# Altium footprint library ST-Microelectronics Footprints.PcbLib: 320 footprints (part 8 of 20)
Each footprint in its own frame and in the unit in brackets; x right, y up, seen from the top. Pads: shape width x height; smd on the part's side, far side on the other; paste and mask are expansions set on the pad; w line width, h text height; cw(c..) or ccw(c..) is an arc to the next point about the centre after c.
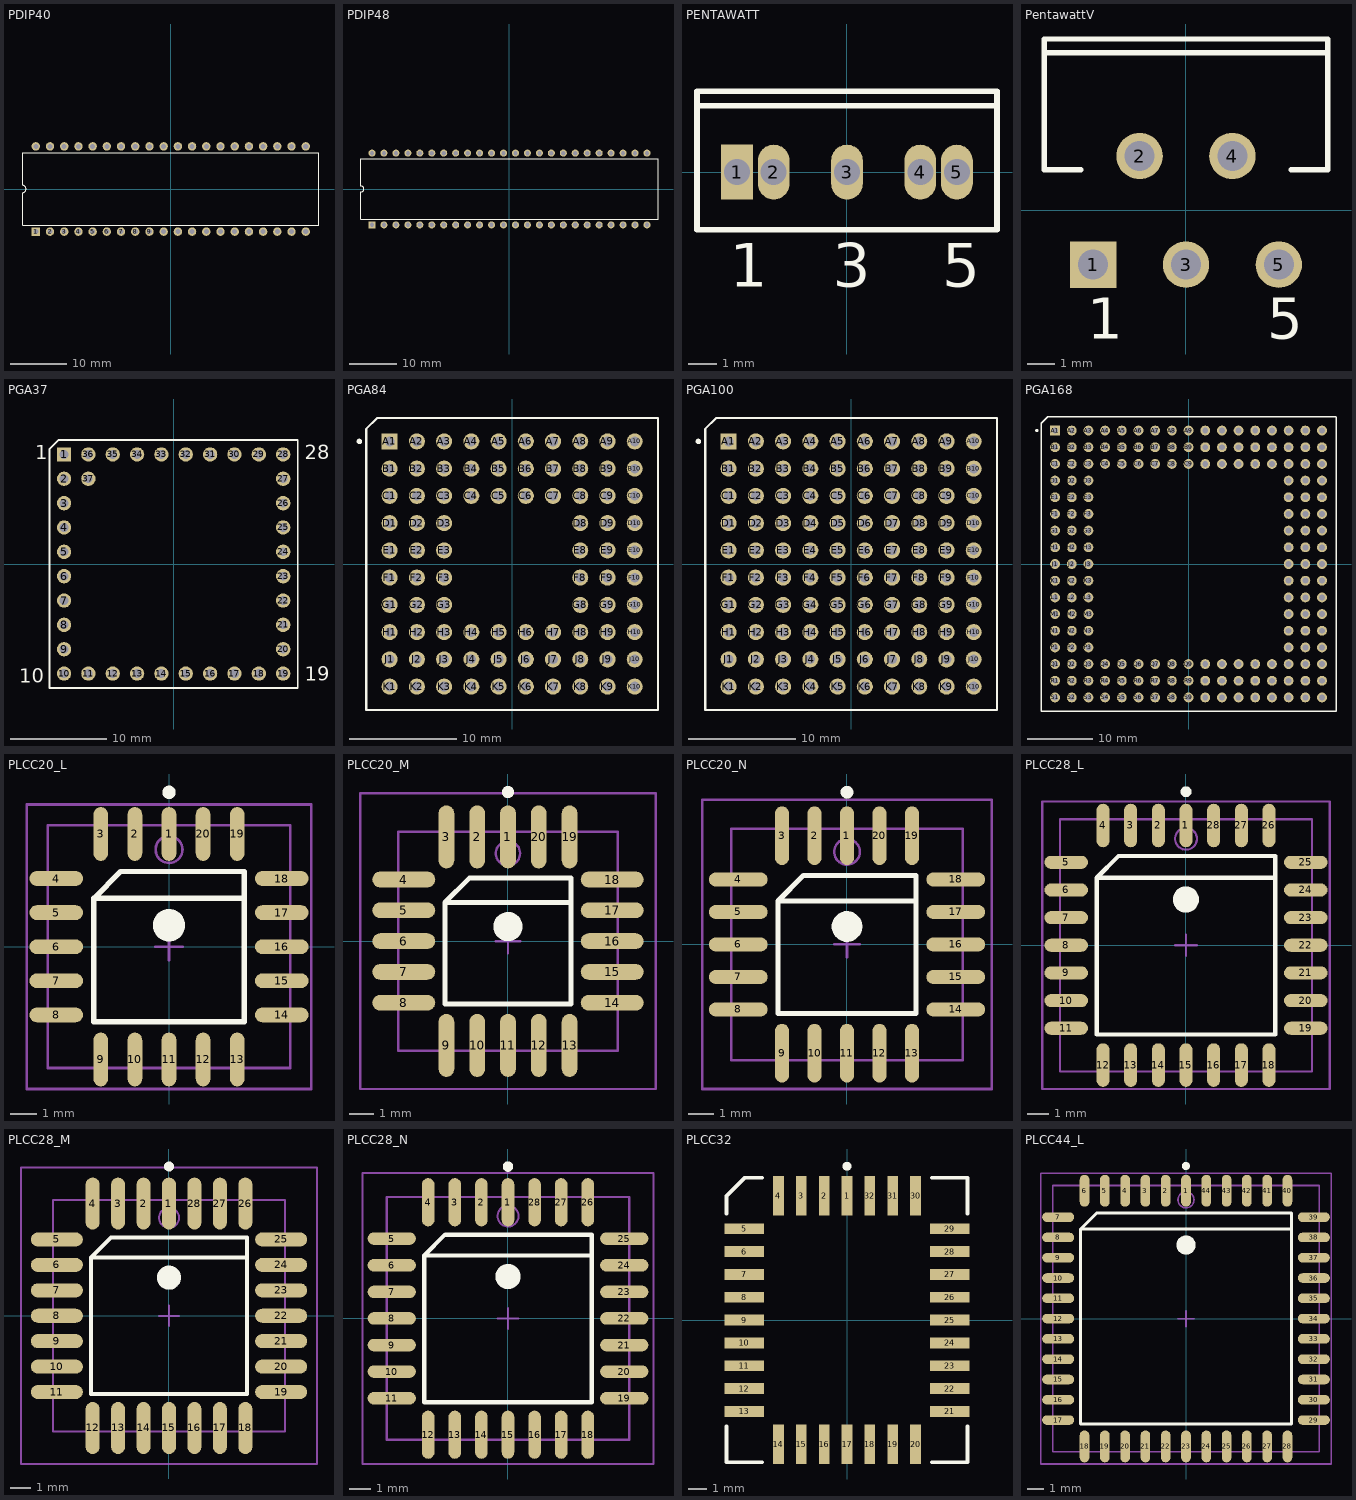
[diagram p7: the footprints below, top view; thin cyan lines are the x and y axes]

## PDIP40 [mm] "DIP, Plastic; 40 Leads; Row Spacing 15.24 mm; Pitch 2.54 mm"
height 4.45
pads (40):
  rect 1.5x1.5 hole 0.9: 1(-24.13,-7.62)
  round 1.5 hole 0.9: 2(-21.59,-7.62) 3(-19.05,-7.62) 4(-16.51,-7.62) 5(-13.97,-7.62) 6(-11.43,-7.62) 7(-8.89,-7.62) 8(-6.35,-7.62) 9(-3.81,-7.62) 10(-1.27,-7.62) 11(1.27,-7.62) 12(3.81,-7.62) 13(6.35,-7.62) 14(8.89,-7.62) 15(11.43,-7.62) 16(13.97,-7.62) 17(16.51,-7.62) 18(19.05,-7.62) 19(21.59,-7.62) 20(24.13,-7.62) 21(24.13,7.62) 22(21.59,7.62) 23(19.05,7.62) 24(16.51,7.62) 25(13.97,7.62) 26(11.43,7.62) 27(8.89,7.62) 28(6.35,7.62) 29(3.81,7.62) 30(1.27,7.62) 31(-1.27,7.62) 32(-3.81,7.62) 33(-6.35,7.62) 34(-8.89,7.62) 35(-11.43,7.62) 36(-13.97,7.62) 37(-16.51,7.62) 38(-19.05,7.62) 39(-21.59,7.62) 40(-24.13,7.62)
Top Overlay:
  lines w0.2: -26.5,-6.45 26.5,-6.45 26.5,6.45 -26.5,6.45 -26.5,0.635 cw(c-26.5,0) -26.5,-0.635 -26.5,-6.45

## PDIP48 [mm] "DIP, Plastic; 48 Leads; Row Spacing 15.24 mm; Pitch 2.54 mm"
height 4.8
pads (48):
  rect 1.5x1.5 hole 0.9: 1(-29.21,-7.62)
  round 1.5 hole 0.9: 2(-26.67,-7.62) 3(-24.13,-7.62) 4(-21.59,-7.62) 5(-19.05,-7.62) 6(-16.51,-7.62) 7(-13.97,-7.62) 8(-11.43,-7.62) 9(-8.89,-7.62) 10(-6.35,-7.62) 11(-3.81,-7.62) 12(-1.27,-7.62) 13(1.27,-7.62) 14(3.81,-7.62) 15(6.35,-7.62) 16(8.89,-7.62) 17(11.43,-7.62) 18(13.97,-7.62) 19(16.51,-7.62) 20(19.05,-7.62) 21(21.59,-7.62) 22(24.13,-7.62) 23(26.67,-7.62) 24(29.21,-7.62) 25(29.21,7.62) 26(26.67,7.62) 27(24.13,7.62) 28(21.59,7.62) 29(19.05,7.62) 30(16.51,7.62) 31(13.97,7.62) 32(11.43,7.62) 33(8.89,7.62) 34(6.35,7.62) 35(3.81,7.62) 36(1.27,7.62) 37(-1.27,7.62) 38(-3.81,7.62) 39(-6.35,7.62) 40(-8.89,7.62) 41(-11.43,7.62) 42(-13.97,7.62) 43(-16.51,7.62) 44(-19.05,7.62) 45(-21.59,7.62) 46(-24.13,7.62) 47(-26.67,7.62) 48(-29.21,7.62)
Top Overlay:
  lines w0.2: -31.55,-6.45 31.55,-6.45 31.55,6.45 -31.55,6.45 -31.55,0.635 cw(c-31.55,0) -31.55,-0.635 -31.55,-6.45

## PENTAWATT [mm] "TO, Thru-Hole, Vertical, Heatsink Mounted; 5 In-Line Leads; Uneven Pitch"
height 15.8
pads (5):
  rect 1.1x1.9 hole 0.9: 1(-3.81,0)
  oval 1.1x1.9 hole 0.9: 2(-2.54,0) 3(0,0) 4(2.54,0) 5(3.81,0)
Top Overlay:
  lines w0.2: -5.2,2.3 5.2,2.3 ; -5.2,-2 5.2,-2 5.2,2.8 -5.2,2.8 -5.2,-2
  text "1" at -4.06,-3.975 h1.5
  text "3" at -0.5,-3.975 h1.5
  text "5" at 3.31,-3.975 h1.5

## PentawattV [mm] "TO, Thru-Hole, Vertical, Heatsink Mounted; 5 Bent Staggered Leads; Pitch 1.7 mm"
height 21.2
pads (5):
  rect 1.7x1.7 hole 1.1: 1(-3.4,-1.99)
  round 1.7 hole 1.1: 2(-1.7,1.99) 3(0,-1.99) 4(1.7,1.99) 5(3.4,-1.99)
Top Overlay:
  lines w0.2: -5.2,5.78 5.2,5.78 ; -3.854,1.48 -5.2,1.48 -5.2,6.28 5.2,6.28 5.2,1.48 3.854,1.48
  text "1" at -3.62,-4.715 h1.5
  text "5" at 2.98,-4.715 h1.5

## PGA37 [mm] "37-Pin Pin Grid Array 2.54 mm Pitch"
height 5.1
pads (37):
  rect 1.5x1.5 hole 0.9: 1(-11.43,11.43)
  round 1.5 hole 0.9: 2(-11.43,8.89) 3(-11.43,6.35) 4(-11.43,3.81) 5(-11.43,1.27) 6(-11.43,-1.27) 7(-11.43,-3.81) 8(-11.43,-6.35) 9(-11.43,-8.89) 10(-11.43,-11.43) 11(-8.89,-11.43) 12(-6.35,-11.43) 13(-3.81,-11.43) 14(-1.27,-11.43) 15(1.27,-11.43) 16(3.81,-11.43) 17(6.35,-11.43) 18(8.89,-11.43) 19(11.43,-11.43) 20(11.43,-8.89) 21(11.43,-6.35) 22(11.43,-3.81) 23(11.43,-1.27) 24(11.43,1.27) 25(11.43,3.81) 26(11.43,6.35) 27(11.43,8.89) 28(11.43,11.43) 29(8.89,11.43) 30(6.35,11.43) 31(3.81,11.43) 32(1.27,11.43) 33(-1.27,11.43) 34(-3.81,11.43) 35(-6.35,11.43) 36(-8.89,11.43) 37(-8.89,8.89)
Top Overlay:
  lines w0.2: -12.95,-12.95 12.95,-12.95 12.95,12.95 -11.976,12.95 -12.95,11.976 -12.95,-12.95
  text "10" at -16.13,-12.37 h1.5
  text "19" at 13.67,-12.17 h1.5
  text "28" at 13.67,10.93 h1.5
  text "1" at -14.43,10.93 h1.5

## PGA84 [mm] "84-Pin Pin Grid Array 2.54 mm Pitch"
height 5.47
pads (84):
  rect 1.5x1.5 hole 0.9: A1(-11.43,11.43)
  round 1.5 hole 0.9: A2(-8.89,11.43) A3(-6.35,11.43) A4(-3.81,11.43) A5(-1.27,11.43) A6(1.27,11.43) A7(3.81,11.43) A8(6.35,11.43) A9(8.89,11.43) A10(11.43,11.43) B1(-11.43,8.89) B2(-8.89,8.89) B3(-6.35,8.89) B4(-3.81,8.89) B5(-1.27,8.89) B6(1.27,8.89) B7(3.81,8.89) B8(6.35,8.89) B9(8.89,8.89) B10(11.43,8.89) C1(-11.43,6.35) C2(-8.89,6.35) C3(-6.35,6.35) C4(-3.81,6.35) C5(-1.27,6.35) C6(1.27,6.35) C7(3.81,6.35) C8(6.35,6.35) C9(8.89,6.35) C10(11.43,6.35) D1(-11.43,3.81) D2(-8.89,3.81) D3(-6.35,3.81) D8(6.35,3.81) D9(8.89,3.81) D10(11.43,3.81) E1(-11.43,1.27) E2(-8.89,1.27) E3(-6.35,1.27) E8(6.35,1.27) E9(8.89,1.27) E10(11.43,1.27) F1(-11.43,-1.27) F2(-8.89,-1.27) F3(-6.35,-1.27) F8(6.35,-1.27) F9(8.89,-1.27) F10(11.43,-1.27) G1(-11.43,-3.81) G2(-8.89,-3.81) G3(-6.35,-3.81) G8(6.35,-3.81) G9(8.89,-3.81) G10(11.43,-3.81) H1(-11.43,-6.35) H2(-8.89,-6.35) H3(-6.35,-6.35) H4(-3.81,-6.35) H5(-1.27,-6.35) H6(1.27,-6.35) H7(3.81,-6.35) H8(6.35,-6.35) H9(8.89,-6.35) H10(11.43,-6.35) J1(-11.43,-8.89) J2(-8.89,-8.89) J3(-6.35,-8.89) J4(-3.81,-8.89) J5(-1.27,-8.89) J6(1.27,-8.89) J7(3.81,-8.89) J8(6.35,-8.89) J9(8.89,-8.89) J10(11.43,-8.89) K1(-11.43,-11.43) K2(-8.89,-11.43) K3(-6.35,-11.43) K4(-3.81,-11.43) K5(-1.27,-11.43) K6(1.27,-11.43) K7(3.81,-11.43) K8(6.35,-11.43) K9(8.89,-11.43) K10(11.43,-11.43)
Top Overlay:
  circle w0.25: c-14.25,11.43 r0.125
  lines w0.2: -13.6,-13.6 -13.6,12.6 -12.6,13.6 13.6,13.6 13.6,-13.6 -13.6,-13.6

## PGA100 [mm] "100-Pin Pin Grid Array 2.54 mm Pitch"
height 4.01
pads (100):
  rect 1.5x1.5 hole 0.9: A1(-11.43,11.43)
  round 1.5 hole 0.9: A2(-8.89,11.43) A3(-6.35,11.43) A4(-3.81,11.43) A5(-1.27,11.43) A6(1.27,11.43) A7(3.81,11.43) A8(6.35,11.43) A9(8.89,11.43) A10(11.43,11.43) B1(-11.43,8.89) B2(-8.89,8.89) B3(-6.35,8.89) B4(-3.81,8.89) B5(-1.27,8.89) B6(1.27,8.89) B7(3.81,8.89) B8(6.35,8.89) B9(8.89,8.89) B10(11.43,8.89) C1(-11.43,6.35) C2(-8.89,6.35) C3(-6.35,6.35) C4(-3.81,6.35) C5(-1.27,6.35) C6(1.27,6.35) C7(3.81,6.35) C8(6.35,6.35) C9(8.89,6.35) C10(11.43,6.35) D1(-11.43,3.81) D2(-8.89,3.81) D3(-6.35,3.81) D4(-3.81,3.81) D5(-1.27,3.81) D6(1.27,3.81) D7(3.81,3.81) D8(6.35,3.81) D9(8.89,3.81) D10(11.43,3.81) E1(-11.43,1.27) E2(-8.89,1.27) E3(-6.35,1.27) E4(-3.81,1.27) E5(-1.27,1.27) E6(1.27,1.27) E7(3.81,1.27) E8(6.35,1.27) E9(8.89,1.27) E10(11.43,1.27) F1(-11.43,-1.27) F2(-8.89,-1.27) F3(-6.35,-1.27) F4(-3.81,-1.27) F5(-1.27,-1.27) F6(1.27,-1.27) F7(3.81,-1.27) F8(6.35,-1.27) F9(8.89,-1.27) F10(11.43,-1.27) G1(-11.43,-3.81) G2(-8.89,-3.81) G3(-6.35,-3.81) G4(-3.81,-3.81) G5(-1.27,-3.81) G6(1.27,-3.81) G7(3.81,-3.81) G8(6.35,-3.81) G9(8.89,-3.81) G10(11.43,-3.81) H1(-11.43,-6.35) H2(-8.89,-6.35) H3(-6.35,-6.35) H4(-3.81,-6.35) H5(-1.27,-6.35) H6(1.27,-6.35) H7(3.81,-6.35) H8(6.35,-6.35) H9(8.89,-6.35) H10(11.43,-6.35) J1(-11.43,-8.89) J2(-8.89,-8.89) J3(-6.35,-8.89) J4(-3.81,-8.89) J5(-1.27,-8.89) J6(1.27,-8.89) J7(3.81,-8.89) J8(6.35,-8.89) J9(8.89,-8.89) J10(11.43,-8.89) K1(-11.43,-11.43) K2(-8.89,-11.43) K3(-6.35,-11.43) K4(-3.81,-11.43) K5(-1.27,-11.43) K6(1.27,-11.43) K7(3.81,-11.43) K8(6.35,-11.43) K9(8.89,-11.43) K10(11.43,-11.43)
Top Overlay:
  circle w0.25: c-14.25,11.43 r0.125
  lines w0.2: -13.6,-13.6 13.6,-13.6 13.6,13.6 -12.6,13.6 -13.6,12.6 -13.6,-13.6

## PGA168 [mm] "168-Pin Pin Grid Array 2.54 mm Pitch"
height 4.72
pads (168):
  rect 1.5x1.5 hole 0.9: A1(-20.32,20.32)
  round 1.5 hole 0.9: A2(-17.78,20.32) A3(-15.24,20.32) A4(-12.7,20.32) A5(-10.16,20.32) A6(-7.62,20.32) A7(-5.08,20.32) A8(-2.54,20.32) A9(0,20.32) A10(2.54,20.32) A11(5.08,20.32) A12(7.62,20.32) A13(10.16,20.32) A14(12.7,20.32) A15(15.24,20.32) A16(17.78,20.32) A17(20.32,20.32) B1(-20.32,17.78) B2(-17.78,17.78) B3(-15.24,17.78) B4(-12.7,17.78) B5(-10.16,17.78) B6(-7.62,17.78) B7(-5.08,17.78) B8(-2.54,17.78) B9(0,17.78) B10(2.54,17.78) B11(5.08,17.78) B12(7.62,17.78) B13(10.16,17.78) B14(12.7,17.78) B15(15.24,17.78) B16(17.78,17.78) B17(20.32,17.78) C1(-20.32,15.24) C2(-17.78,15.24) C3(-15.24,15.24) C4(-12.7,15.24) C5(-10.16,15.24) C6(-7.62,15.24) C7(-5.08,15.24) C8(-2.54,15.24) C9(0,15.24) C10(2.54,15.24) C11(5.08,15.24) C12(7.62,15.24) C13(10.16,15.24) C14(12.7,15.24) C15(15.24,15.24) C16(17.78,15.24) C17(20.32,15.24) D1(-20.32,12.7) D2(-17.78,12.7) D3(-15.24,12.7) D15(15.24,12.7) D16(17.78,12.7) D17(20.32,12.7) E1(-20.32,10.16) E2(-17.78,10.16) E3(-15.24,10.16) E15(15.24,10.16) E16(17.78,10.16) E17(20.32,10.16) F1(-20.32,7.62) F2(-17.78,7.62) F3(-15.24,7.62) F15(15.24,7.62) F16(17.78,7.62) F17(20.32,7.62) G1(-20.32,5.08) G2(-17.78,5.08) G3(-15.24,5.08) G15(15.24,5.08) G16(17.78,5.08) G17(20.32,5.08) H1(-20.32,2.54) H2(-17.78,2.54) H3(-15.24,2.54) H15(15.24,2.54) H16(17.78,2.54) H17(20.32,2.54) J1(-20.32,0) J2(-17.78,0) J3(-15.24,0) J15(15.24,0) J16(17.78,0) J17(20.32,0) K1(-20.32,-2.54) K2(-17.78,-2.54) K3(-15.24,-2.54) K15(15.24,-2.54) K16(17.78,-2.54) K17(20.32,-2.54) L1(-20.32,-5.08) L2(-17.78,-5.08) L3(-15.24,-5.08) L15(15.24,-5.08) L16(17.78,-5.08) L17(20.32,-5.08) M1(-20.32,-7.62) M2(-17.78,-7.62) M3(-15.24,-7.62) M15(15.24,-7.62) M16(17.78,-7.62) M17(20.32,-7.62) N1(-20.32,-10.16) N2(-17.78,-10.16) N3(-15.24,-10.16) N15(15.24,-10.16) N16(17.78,-10.16) N17(20.32,-10.16) P1(-20.32,-12.7) P2(-17.78,-12.7) P3(-15.24,-12.7) P15(15.24,-12.7) P16(17.78,-12.7) P17(20.32,-12.7) Q1(-20.32,-15.24) Q2(-17.78,-15.24) Q3(-15.24,-15.24) Q4(-12.7,-15.24) Q5(-10.16,-15.24) Q6(-7.62,-15.24) Q7(-5.08,-15.24) Q8(-2.54,-15.24) Q9(0,-15.24) Q10(2.54,-15.24) Q11(5.08,-15.24) Q12(7.62,-15.24) Q13(10.16,-15.24) Q14(12.7,-15.24) Q15(15.24,-15.24) Q16(17.78,-15.24) Q17(20.32,-15.24) R1(-20.32,-17.78) R2(-17.78,-17.78) R3(-15.24,-17.78) R4(-12.7,-17.78) R5(-10.16,-17.78) R6(-7.62,-17.78) R7(-5.08,-17.78) R8(-2.54,-17.78) R9(0,-17.78) R10(2.54,-17.78) R11(5.08,-17.78) R12(7.62,-17.78) R13(10.16,-17.78) R14(12.7,-17.78) R15(15.24,-17.78) R16(17.78,-17.78) R17(20.32,-17.78) S1(-20.32,-20.32) S2(-17.78,-20.32) S3(-15.24,-20.32) S4(-12.7,-20.32) S5(-10.16,-20.32) S6(-7.62,-20.32) S7(-5.08,-20.32) S8(-2.54,-20.32) S9(0,-20.32) S10(2.54,-20.32) S11(5.08,-20.32) S12(7.62,-20.32) S13(10.16,-20.32) S14(12.7,-20.32) S15(15.24,-20.32) S16(17.78,-20.32) S17(20.32,-20.32)
Top Overlay:
  circle w0.25: c-23.1,20.32 r0.125
  lines w0.2: -22.45,-22.45 -22.45,21.45 -21.45,22.45 22.45,22.45 22.45,-22.45 -22.45,-22.45

## PLCC20_L [mm] "20-Pin Leaded Chip Carrier 1.27 mm Pitch, IPC High Density"
height 4.57
pads (20):
  oval 0.55x2 smd: 1(0,4.2) 2(-1.27,4.2) 3(-2.54,4.2) 9(-2.54,-4.2) 10(-1.27,-4.2) 11(0,-4.2) 12(1.27,-4.2) 13(2.54,-4.2) 19(2.54,4.2) 20(1.27,4.2)
  oval 2x0.55 smd: 4(-4.2,2.54) 5(-4.2,1.27) 6(-4.2,0) 7(-4.2,-1.27) 8(-4.2,-2.54) 14(4.2,-2.54) 15(4.2,-1.27) 16(4.2,0) 17(4.2,1.27) 18(4.2,2.54)
Top Overlay:
  circle w0.6: c0,0.8 r0.3
  circle w0.25: c0,5.75 r0.125
  lines w0.2: 2.8,1.8 -2.8,1.8 ; -2.8,1.8 -2.8,-2.8 2.8,-2.8 2.8,2.8 -1.8,2.8 -2.8,1.8
Mechanical 13:
  circle w0.1: c0,3.62 r0.5
  lines w0.1: -4.52,-4.52 4.52,-4.52 4.52,4.52 -4.52,4.52 -4.52,-4.52
Mechanical 15:
  lines w0.1: -0.5,0 0.5,0 ; 0,-0.5 0,0.5 ; -5.3,-5.3 5.3,-5.3 5.3,5.3 -5.3,5.3 -5.3,-5.3
3D body: height 4.57, standoff 0, extent -4.52,-4.52 4.52,4.52

## PLCC20_M [mm] "20-Pin Leaded Chip Carrier 1.27 mm Pitch, IPC Low Density"
height 4.57
pads (20):
  oval 0.65x2.6 smd: 1(0,4.3) 2(-1.27,4.3) 3(-2.54,4.3) 9(-2.54,-4.3) 10(-1.27,-4.3) 11(0,-4.3) 12(1.27,-4.3) 13(2.54,-4.3) 19(2.54,4.3) 20(1.27,4.3)
  oval 2.6x0.65 smd: 4(-4.3,2.54) 5(-4.3,1.27) 6(-4.3,0) 7(-4.3,-1.27) 8(-4.3,-2.54) 14(4.3,-2.54) 15(4.3,-1.27) 16(4.3,0) 17(4.3,1.27) 18(4.3,2.54)
Top Overlay:
  circle w0.25: c0,6.15 r0.125
  circle w0.6: c0,0.6 r0.3
  lines w0.2: 2.6,1.6 -2.6,1.6 ; -2.6,1.6 -1.6,2.6 2.6,2.6 2.6,-2.6 -2.6,-2.6 -2.6,1.6
Mechanical 13:
  circle w0.1: c0,3.62 r0.5
  lines w0.1: -4.52,-4.52 -4.52,4.52 4.52,4.52 4.52,-4.52 -4.52,-4.52
Mechanical 15:
  lines w0.1: -0.5,0 0.5,0 ; 0,-0.5 0,0.5 ; -6.1,-6.1 -6.1,6.1 6.1,6.1 6.1,-6.1 -6.1,-6.1
3D body: height 4.57, standoff 0, extent -4.52,-4.52 4.52,4.52

## PLCC20_N [mm] "20-Pin Leaded Chip Carrier 1.27 mm Pitch, IPC Medium Density"
height 4.57
pads (20):
  oval 0.55x2.3 smd: 1(0,4.25) 2(-1.27,4.25) 3(-2.54,4.25) 9(-2.54,-4.25) 10(-1.27,-4.25) 11(0,-4.25) 12(1.27,-4.25) 13(2.54,-4.25) 19(2.54,4.25) 20(1.27,4.25)
  oval 2.3x0.55 smd: 4(-4.25,2.54) 5(-4.25,1.27) 6(-4.25,0) 7(-4.25,-1.27) 8(-4.25,-2.54) 14(4.25,-2.54) 15(4.25,-1.27) 16(4.25,0) 17(4.25,1.27) 18(4.25,2.54)
Top Overlay:
  circle w0.6: c0,0.7 r0.3
  circle w0.25: c0,5.95 r0.125
  lines w0.2: 2.7,1.7 -2.7,1.7 ; -2.7,1.7 -2.7,-2.7 2.7,-2.7 2.7,2.7 -1.7,2.7 -2.7,1.7
Mechanical 13:
  circle w0.1: c0,3.62 r0.5
  lines w0.1: -4.52,-4.52 4.52,-4.52 4.52,4.52 -4.52,4.52 -4.52,-4.52
Mechanical 15:
  lines w0.1: -0.5,0 0.5,0 ; 0,-0.5 0,0.5 ; -5.65,-5.65 5.65,-5.65 5.65,5.65 -5.65,5.65 -5.65,-5.65
3D body: height 4.57, standoff 0, extent -4.52,-4.52 4.52,4.52

## PLCC28_L [mm] "28-Pin Leaded Chip Carrier 1.27 mm Pitch, IPC High Density"
height 4.57
pads (28):
  oval 0.6x2 smd: 1(0,5.5) 2(-1.27,5.5) 3(-2.54,5.5) 4(-3.81,5.5) 12(-3.81,-5.5) 13(-2.54,-5.5) 14(-1.27,-5.5) 15(0,-5.5) 16(1.27,-5.5) 17(2.54,-5.5) 18(3.81,-5.5) 26(3.81,5.5) 27(2.54,5.5) 28(1.27,5.5)
  oval 2x0.6 smd: 5(-5.5,3.81) 6(-5.5,2.54) 7(-5.5,1.27) 8(-5.5,0) 9(-5.5,-1.27) 10(-5.5,-2.54) 11(-5.5,-3.81) 19(5.5,-3.81) 20(5.5,-2.54) 21(5.5,-1.27) 22(5.5,0) 23(5.5,1.27) 24(5.5,2.54) 25(5.5,3.81)
Top Overlay:
  circle w0.25: c0,7.05 r0.125
  circle w0.6: c0,2.1 r0.3
  lines w0.2: 4.1,3.1 -4.1,3.1 ; -4.1,3.1 -3.1,4.1 4.1,4.1 4.1,-4.1 -4.1,-4.1 -4.1,3.1
Mechanical 13:
  circle w0.1: c0,4.89 r0.5
  lines w0.1: -5.79,-5.79 -5.79,5.79 5.79,5.79 5.79,-5.79 -5.79,-5.79
Mechanical 15:
  lines w0.1: -0.5,0 0.5,0 ; 0,-0.5 0,0.5 ; -6.6,-6.6 -6.6,6.6 6.6,6.6 6.6,-6.6 -6.6,-6.6
3D body: height 4.57, standoff 0, extent -5.79,-5.79 5.79,5.79

## PLCC28_M [mm] "28-Pin Leaded Chip Carrier 1.27 mm Pitch, IPC Low Density"
height 4.57
pads (28):
  oval 0.7x2.6 smd: 1(0,5.6) 2(-1.27,5.6) 3(-2.54,5.6) 4(-3.81,5.6) 12(-3.81,-5.6) 13(-2.54,-5.6) 14(-1.27,-5.6) 15(0,-5.6) 16(1.27,-5.6) 17(2.54,-5.6) 18(3.81,-5.6) 26(3.81,5.6) 27(2.54,5.6) 28(1.27,5.6)
  oval 2.6x0.7 smd: 5(-5.6,3.81) 6(-5.6,2.54) 7(-5.6,1.27) 8(-5.6,0) 9(-5.6,-1.27) 10(-5.6,-2.54) 11(-5.6,-3.81) 19(5.6,-3.81) 20(5.6,-2.54) 21(5.6,-1.27) 22(5.6,0) 23(5.6,1.27) 24(5.6,2.54) 25(5.6,3.81)
Top Overlay:
  circle w0.25: c0,7.45 r0.125
  circle w0.6: c0,1.9 r0.3
  lines w0.2: 3.9,2.9 -3.9,2.9 ; -3.9,2.9 -2.9,3.9 3.9,3.9 3.9,-3.9 -3.9,-3.9 -3.9,2.9
Mechanical 13:
  circle w0.1: c0,4.89 r0.5
  lines w0.1: -5.79,-5.79 -5.79,5.79 5.79,5.79 5.79,-5.79 -5.79,-5.79
Mechanical 15:
  lines w0.1: -0.5,0 0.5,0 ; 0,-0.5 0,0.5 ; -7.4,-7.4 -7.4,7.4 7.4,7.4 7.4,-7.4 -7.4,-7.4
3D body: height 4.57, standoff 0, extent -5.79,-5.79 5.79,5.79

## PLCC28_N [mm] "28-Pin Leaded Chip Carrier 1.27 mm Pitch, IPC Medium Density"
height 4.57
pads (28):
  oval 0.6x2.3 smd: 1(0,5.55) 2(-1.27,5.55) 3(-2.54,5.55) 4(-3.81,5.55) 12(-3.81,-5.55) 13(-2.54,-5.55) 14(-1.27,-5.55) 15(0,-5.55) 16(1.27,-5.55) 17(2.54,-5.55) 18(3.81,-5.55) 26(3.81,5.55) 27(2.54,5.55) 28(1.27,5.55)
  oval 2.3x0.6 smd: 5(-5.55,3.81) 6(-5.55,2.54) 7(-5.55,1.27) 8(-5.55,0) 9(-5.55,-1.27) 10(-5.55,-2.54) 11(-5.55,-3.81) 19(5.55,-3.81) 20(5.55,-2.54) 21(5.55,-1.27) 22(5.55,0) 23(5.55,1.27) 24(5.55,2.54) 25(5.55,3.81)
Top Overlay:
  circle w0.25: c0,7.25 r0.125
  circle w0.6: c0,2 r0.3
  lines w0.2: 4,3 -4,3 ; -4,3 -3,4 4,4 4,-4 -4,-4 -4,3
Mechanical 13:
  circle w0.1: c0,4.89 r0.5
  lines w0.1: -5.79,-5.79 -5.79,5.79 5.79,5.79 5.79,-5.79 -5.79,-5.79
Mechanical 15:
  lines w0.1: -0.5,0 0.5,0 ; 0,-0.5 0,0.5 ; -6.95,-6.95 -6.95,6.95 6.95,6.95 6.95,-6.95 -6.95,-6.95
3D body: height 4.57, standoff 0, extent -5.79,-5.79 5.79,5.79

## PLCC32 [mm] "Leaded Chip Carrier; 32 Leads; Body 11.5 x 14 mm"
height 3.56
pads (32):
  rect 0.6x2.2 smd: 1(0,6.9) 2(-1.27,6.9) 3(-2.54,6.9) 4(-3.81,6.9) 14(-3.81,-6.9) 15(-2.54,-6.9) 16(-1.27,-6.9) 17(0,-6.9) 18(1.27,-6.9) 19(2.54,-6.9) 20(3.81,-6.9) 30(3.81,6.9) 31(2.54,6.9) 32(1.27,6.9)
  rect 2.2x0.6 smd: 5(-5.7,5.08) 6(-5.7,3.81) 7(-5.7,2.54) 8(-5.7,1.27) 9(-5.7,0) 10(-5.7,-1.27) 11(-5.7,-2.54) 12(-5.7,-3.81) 13(-5.7,-5.08) 21(5.7,-5.08) 22(5.7,-3.81) 23(5.7,-2.54) 24(5.7,-1.27) 25(5.7,0) 26(5.7,1.27) 27(5.7,2.54) 28(5.7,3.81) 29(5.7,5.08)
Top Overlay:
  circle w0.25: c0,8.55 r0.125
  lines w0.2: -6.7,-5.9 -6.7,-7.9 -4.7,-7.9 ; -6.7,5.9 -6.7,6.9 -5.7,7.9 -4.7,7.9 ; 4.7,-7.9 6.7,-7.9 6.7,-5.9 ; 4.7,7.9 6.7,7.9 6.7,5.9

## PLCC44_L [mm] "44-Pin Leaded Chip Carrier 1.27 mm Pitch, IPC High Density"
height 4.7
pads (44):
  oval 0.6x2 smd: 1(0,8) 2(-1.27,8) 3(-2.54,8) 4(-3.81,8) 5(-5.08,8) 6(-6.35,8) 18(-6.35,-8) 19(-5.08,-8) 20(-3.81,-8) 21(-2.54,-8) 22(-1.27,-8) 23(0,-8) 24(1.27,-8) 25(2.54,-8) 26(3.81,-8) 27(5.08,-8) 28(6.35,-8) 40(6.35,8) 41(5.08,8) 42(3.81,8) 43(2.54,8) 44(1.27,8)
  oval 2x0.6 smd: 7(-8,6.35) 8(-8,5.08) 9(-8,3.81) 10(-8,2.54) 11(-8,1.27) 12(-8,0) 13(-8,-1.27) 14(-8,-2.54) 15(-8,-3.81) 16(-8,-5.08) 17(-8,-6.35) 29(8,-6.35) 30(8,-5.08) 31(8,-3.81) 32(8,-2.54) 33(8,-1.27) 34(8,0) 35(8,1.27) 36(8,2.54) 37(8,3.81) 38(8,5.08) 39(8,6.35)
Top Overlay:
  circle w0.25: c0,9.55 r0.125
  circle w0.6: c0,4.6 r0.3
  lines w0.2: 6.6,5.6 -6.6,5.6 ; -6.6,5.6 -5.6,6.6 6.6,6.6 6.6,-6.6 -6.6,-6.6 -6.6,5.6
Mechanical 13:
  circle w0.1: c0,7.43 r0.5
  lines w0.1: -8.33,-8.33 -8.33,8.33 8.33,8.33 8.33,-8.33 -8.33,-8.33
Mechanical 15:
  lines w0.1: -0.5,0 0.5,0 ; 0,-0.5 0,0.5 ; -9.1,-9.1 -9.1,9.1 9.1,9.1 9.1,-9.1 -9.1,-9.1
3D body: height 4.7, standoff 0, extent -8.33,-8.33 8.33,8.33